# Altium footprint library DIP787W46P254L3467H508Q28.PcbLib: 1 footprints
Each footprint in its own frame and in the unit in brackets; x right, y up, seen from the top. Pads: shape width x height; smd on the part's side, far side on the other; paste and mask are expansions set on the pad; w line width, h text height; cw(c..) or ccw(c..) is an arc to the next point about the centre after c.
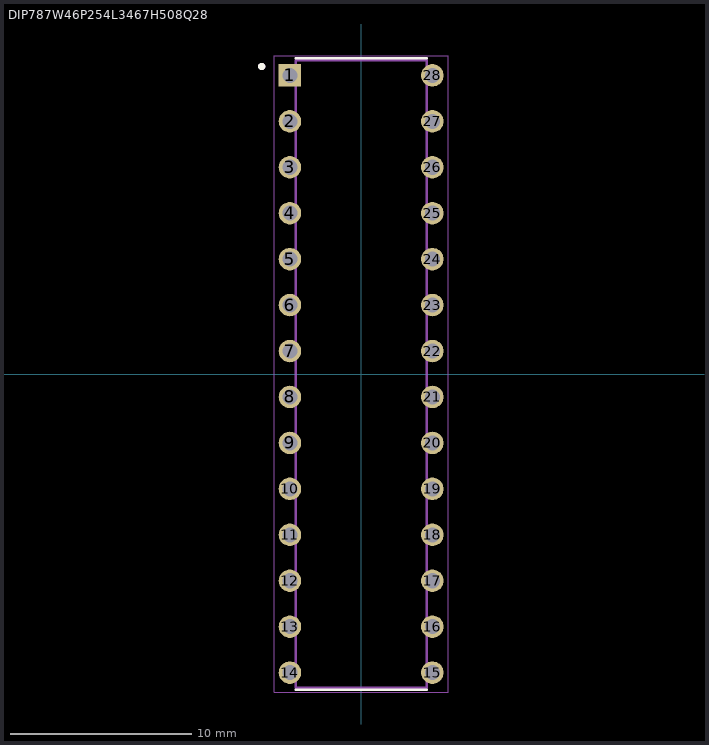
[diagram p0: the footprint, top view; thin cyan lines are the x and y axes]

## DIP787W46P254L3467H508Q28 [mil]
pads (28):
  rect 48.94x48.94 hole 32.68: 1(-155,650)
  round 48.94 hole 32.68: 2(-155,550) 3(-155,450) 4(-155,350) 5(-155,250) 6(-155,150) 7(-155,50) 8(-155,-50) 9(-155,-150) 10(-155,-250) 11(-155,-350) 12(-155,-450) 13(-155,-550) 14(-155,-650) 15(155,-650) 16(155,-550) 17(155,-450) 18(155,-350) 19(155,-250) 20(155,-150) 21(155,-50) 22(155,50) 23(155,150) 24(155,250) 25(155,350) 26(155,450) 27(155,550) 28(155,650)
Top Overlay:
  circle w7.87: c-216.54,669.29 r3.94
  lines w5: -142.52,-687.01 142.52,-687.01 ; -142.52,687.01 142.52,687.01
Mechanical 13:
  circle w7.87: c-216.54,669.29 r3.94
  lines w5: -142.52,-682.68 142.52,-682.68 142.52,682.68 -142.52,682.68 -142.52,-682.68
Mechanical 15:
  lines w1.97: -189.37,-692.52 -189.37,692.52 189.37,692.52 189.37,-692.52 -189.37,-692.52